# Altium footprint library DMT6005LPS-13.PcbLib: 3 footprints
Each footprint in its own frame and in the unit in brackets; x right, y up, seen from the top. Pads: shape width x height; smd on the part's side, far side on the other; paste and mask are expansions set on the pad; w line width, h text height; cw(c..) or ccw(c..) is an arc to the next point about the centre after c.
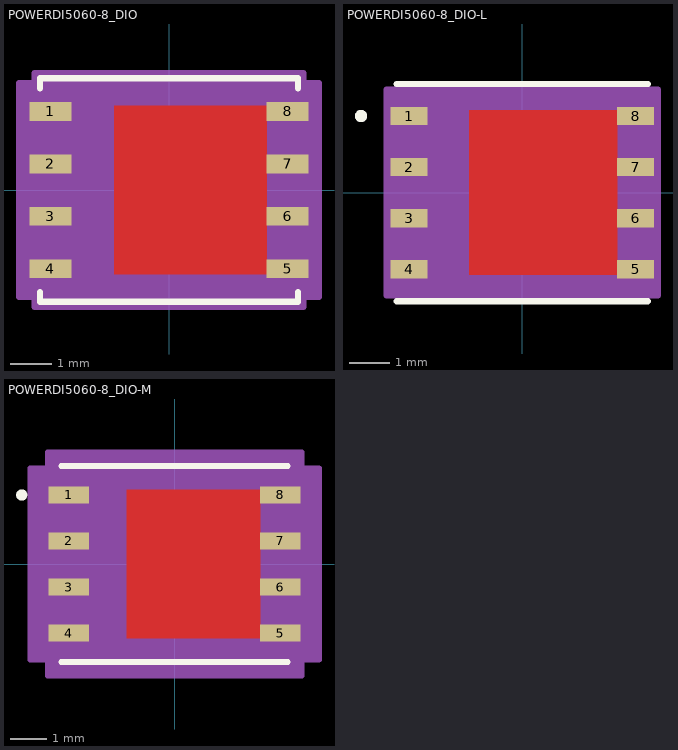
[diagram p0: the footprints below, top view; thin cyan lines are the x and y axes]

## POWERDI5060-8_DIO [mil]
pads (8):
  rect 40x18 smd paste+0 mask+0: 1(-113,75) 2(-113,25) 3(-113,-25) 4(-113,-75) 5(113,-75) 6(113,-25) 7(113,25) 8(113,75)
Top Layer:
  region: 93,-80.5 93,80.5 -52,80.5 -52,-80.5
Top Overlay:
  lines w6: -123,-97.1 -123,-106.5 123,-106.5 123,-97.1 ; -123,97.1 -123,106.5 123,106.5 123,97.1
Top Paste:
  region: 93,-80.5 93,80.5 -52,80.5 -52,-80.5
Top Solder:
  region: 93,-80.5 93,80.5 -52,80.5 -52,-80.5
Mechanical 13:
  circle w0: c-93,75 r0
  lines w0: -12,101.5 ccw(c0,101.5) 12,101.5
  lines w1: -118,-101.5 118,-101.5 118,101.5 -118,101.5 -118,-101.5
Mechanical 15:
  region: -128,-102 -143,-102 -143,102 -128,102 -128,111.5 128,111.5 128,102 143,102 143,-102 128,-102 128,-111.5 -128,-111.5
  lines w6: -143,-102 -143,102 -128,102 -128,111.5 128,111.5 128,102 143,102 143,-102 128,-102 128,-111.5 -128,-111.5 -128,-102 -143,-102
3D body "POWERDI5060-8_DIO.step": height 43.11, standoff 0, extent -120.98,-101.5 120.98,101.5

## POWERDI5060-8_DIO-L [mil]
pads (8):
  rect 36x18 smd paste+0 mask+0: 1(-111,75) 2(-111,25) 3(-111,-25) 4(-111,-75) 5(111,-75) 6(111,-25) 7(111,25) 8(111,75)
Top Layer:
  region: 93,-80.5 93,80.5 -52,80.5 -52,-80.5
Top Overlay:
  circle w6: c-158,75 r3
  lines w6: -123,-106.5 123,-106.5 ; -123,106.5 123,106.5
Top Paste:
  region: 93,-80.5 93,80.5 -52,80.5 -52,-80.5
Top Solder:
  region: 93,-80.5 93,80.5 -52,80.5 -52,-80.5
Mechanical 13:
  circle w0: c-93,75 r3
  lines w0: -12,101.5 ccw(c0,101.5) 12,101.5
  lines w1: -118,-101.5 118,-101.5 118,101.5 -118,101.5 -118,-101.5
Mechanical 15:
  region: -122,-100.8 -133,-100.8 -133,100.8 -122,100.8 -122,105.5 122,105.5 122,100.8 133,100.8 133,-100.8 122,-100.8 122,-105.5 -122,-105.5
  lines w6: -133,-100.8 -133,100.8 -122,100.8 -122,105.5 122,105.5 122,100.8 133,100.8 133,-100.8 122,-100.8 122,-105.5 -122,-105.5 -122,-100.8 -133,-100.8
3D body "POWERDI5060-8_DIO.step": height 43.11, standoff 0, extent -120.98,-101.5 120.98,101.5

## POWERDI5060-8_DIO-M [mil]
pads (8):
  rect 44x18 smd paste+0 mask+0: 1(-115,75) 2(-115,25) 3(-115,-25) 4(-115,-75) 5(115,-75) 6(115,-25) 7(115,25) 8(115,75)
Top Layer:
  region: 93,-80.5 93,80.5 -52,80.5 -52,-80.5
Top Overlay:
  circle w6: c-166,75 r3
  lines w6: -123,-106.5 123,-106.5 ; -123,106.5 123,106.5
Top Paste:
  region: 93,-80.5 93,80.5 -52,80.5 -52,-80.5
Top Solder:
  region: 93,-80.5 93,80.5 -52,80.5 -52,-80.5
Mechanical 13:
  circle w0: c-93,75 r3
  lines w0: -12,101.5 ccw(c0,101.5) 12,101.5
  lines w1: -118,-101.5 118,-101.5 118,101.5 -118,101.5 -118,-101.5
Mechanical 15:
  region: -138,-104 -157,-104 -157,104 -138,104 -138,121.5 138,121.5 138,104 157,104 157,-104 138,-104 138,-121.5 -138,-121.5
  lines w6: -157,-104 -157,104 -138,104 -138,121.5 138,121.5 138,104 157,104 157,-104 138,-104 138,-121.5 -138,-121.5 -138,-104 -157,-104
3D body "POWERDI5060-8_DIO.step": height 43.11, standoff 0, extent -120.98,-101.5 120.98,101.5